# EAGLE library part 74LVC1G3157 (library testLib)
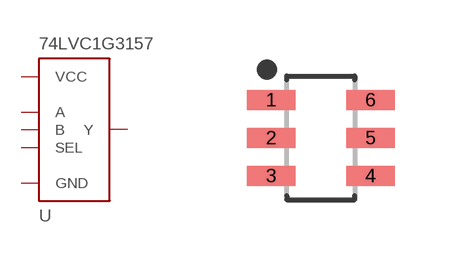
[diagram p5: symbol with the pads of SOP95P275X110-6; footprint SOP95P275X110-6]

Designator prefix U

## 74LVC1G3157-SOT457  [SOP95P275X110-6]
1  B
2  GND
3  A
4  Y
5  VCC
6  SEL

## Footprint SOP95P275X110-6 (pad centres in mm)
6-SOP, 0.95 mm pitch, 2.75 mm span, 2.90 X 1.50 X 1.10 mm body 6-pin SOP package with 0.95 mm pitch, 2.75 mm span with body size 2.90 X 1.50 X 1.10 mm
smd 1.224 x 0.497: 1 -1.244,0.95; 2 -1.244,0; 3 -1.244,-0.95; 4 1.244,-0.95; 5 1.244,0; 6 1.244,0.95